# Altium footprint library SnapEDApcb.PcbLib: 1 footprints
Each footprint in its own frame and in the unit in brackets; x right, y up, seen from the top. Pads: shape width x height; smd on the part's side, far side on the other; paste and mask are expansions set on the pad; w line width, h text height; cw(c..) or ccw(c..) is an arc to the next point about the centre after c.
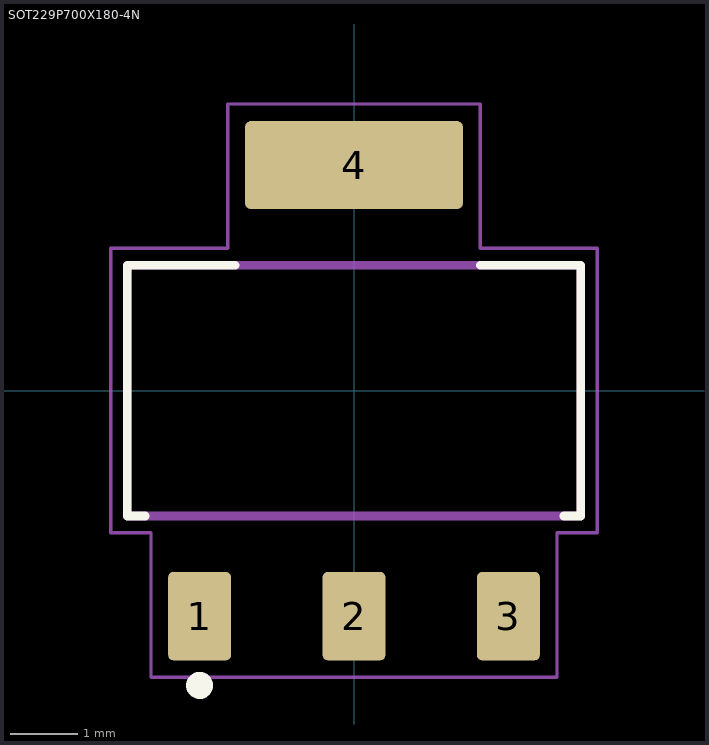
[diagram p0: the footprint, top view; thin cyan lines are the x and y axes]

## SOT229P700X180-4N [mm]
pads (4):
  rrect15% 0.93x1.31 smd: 1(-2.29,-3.345) 2(0,-3.345) 3(2.29,-3.345)
  rrect15% 3.24x1.31 smd: 4(0,3.345)
Top Overlay:
  circle w0.2: c-2.29,-4.373 r0.1
  lines w0.127: -3.1,-1.86 -3.36,-1.86 -3.36,1.86 -1.76,1.86 ; 1.87,1.86 3.36,1.86 3.36,-1.86 3.11,-1.86
Mechanical 13:
  lines w0.127: -3.36,-1.86 3.36,-1.86 3.36,1.86 -3.36,1.86 -3.36,-1.86
Mechanical 15:
  lines w0.05: -3.61,-2.11 -3.01,-2.11 -3.01,-4.25 3.01,-4.25 3.01,-2.11 3.61,-2.11 3.61,2.11 1.87,2.11 1.87,4.25 -1.87,4.25 -1.87,2.11 -3.61,2.11 -3.61,-2.11